# Altium schematic symbol library MCP6S91T-E_MS.Schlib: 1 symbol
Pins are listed as number, name and electrical type; pins without a type are passive.

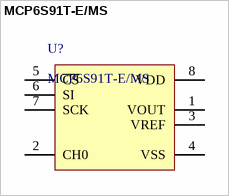
[diagram p0: symbol MCP6S91T-E/MS]

## MCP6S91T-E/MS
designator U?
Programmable Gain Amplifier 1 Circuit Rail-to-Rail 8-MSOP
pins: 1 VOUT, 2 CH0, 3 VREF, 4 VSS, 5 ~{CS}, 6 SI, 7 SCK, 8 VDD